# EAGLE library part TC7660 (library microchip2)
The TC7660 is a pin-compatible replacement for the industry standard 7660 charge pump voltage converter. It converts a +1.5V to +10V input to a corresponding -1.5V to -10V output using only two low cost capacitors, eliminating inductors and their associated cost, size and electromagnetic interference (EMI). The on-board oscillator operates at a nominal frequency of 10 kHz. Operation below 10 kHz (for lower supply current applications) is possible by connecting an external capacitor from OSC to ground. The TC7660 is available in 8-Pin PDIP, 8-Pin Small Outline (SOIC) and 8-Pin CERDIP packages in commercial and extended temperature ranges.
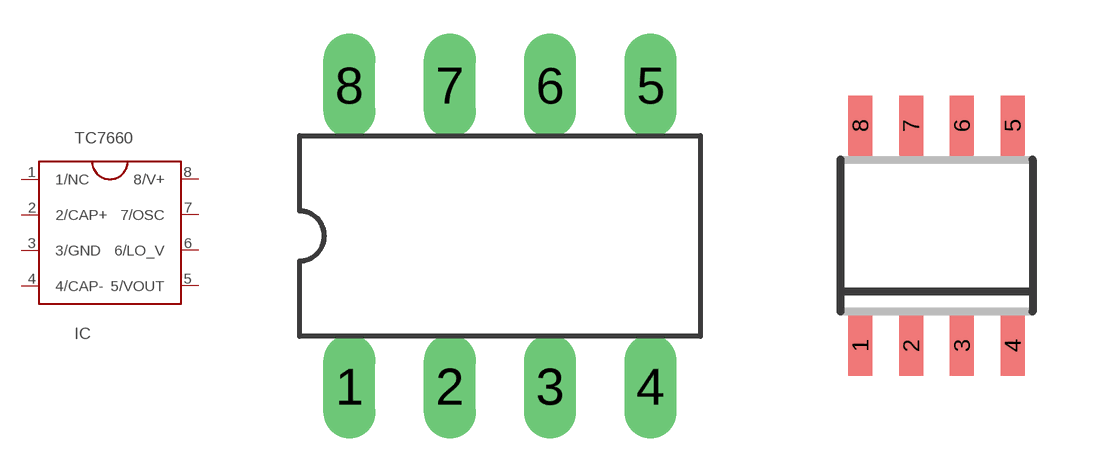
[diagram p181: symbol with the pads of DIL8; footprints DIL8, SOIC8]

Designator prefix IC

## TC7660  [DIL8]
1  1/NC  nc
2  2/CAP+
3  3/GND  pwr
4  4/CAP-
5  5/VOUT  out
6  6/LO_V
7  7/OSC
8  8/V+  pwr

## TC7660SOIC8  [SOIC8]
Pads as for DIL8

## Footprint DIL8 (pad centres in mm)
DIL package type P
drill 0.813 long: 1 -3.81,-3.81; 2 -1.27,-3.81; 3 1.27,-3.81; 4 3.81,-3.81; 5 3.81,3.81; 6 1.27,3.81; 7 -1.27,3.81; 8 -3.81,3.81

## Footprint SOIC8 (pad centres in mm)
SOIC-8 CASE 751-07 Source: http://www.onsemi.com/pub/Collateral/MC34164-D.PDF D (R-PDSO-G8)PLATIC SMALL-OUTLINE PACKAGE Source: http://focus.ti.com/lit/ds/symlink/tlc27l2.pdf
smd 0.6 x 1.5: 1 -1.905,-2.75; 2 -0.635,-2.75; 3 0.635,-2.75; 4 1.905,-2.75; 5 1.905,2.75; 6 0.635,2.75; 7 -0.635,2.75; 8 -1.905,2.75